# EAGLE library part HILETGO (library EE445L)
HiLetgo ST7735 TFT and SDC // GND (pin 1) connected to ground // VCC (pin 2) connected to +3.3 V // NC (pins 3,4,5) not connected // RESET (pin 6) TFT, to PA7 (GPIO) // A0 (pin 7) TFT, Data/Command PA6 (GPIO), high for data, low for command // SDA (pin 8) TFT, MOSI PA5 (SSI0Tx) // SCL (pin 9) TFT, SCK PA2 (SSI0Clk) // CS (pin 10) TFT, PA3 (SSI0Fss) // SCK (pin 11) SDC, serial clock, also connect to PA2 ST7735_SCK // MISO (pin 12) SDC, MISO, connect to PA4 ST7735_MISO // MOSI (pin 13) SDC, MOSI, also connect to ST7735_MOSI PA5 // SD_CS (pin 14) SDC, chip select, connect to PD7 // LED+ (pin 15) TFT, connected to +3.3 V // LED- (pin 16) TFT, connected to ground
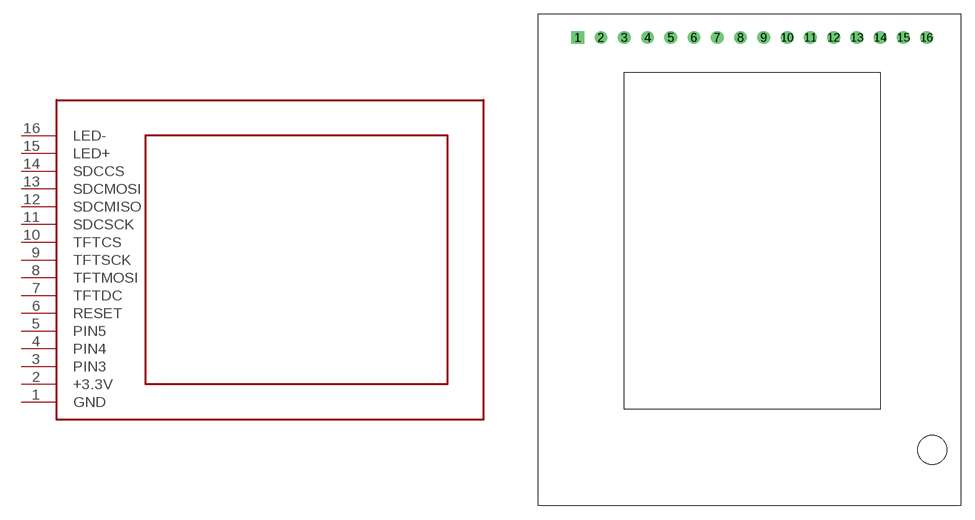
[diagram p34: symbol with the pads of HILETGO; footprint HILETGO]

Designator prefix -

## HILETGO  [HILETGO]
1  GND
2  +3.3V
3  PIN3
4  PIN4
5  PIN5
6  RESET
7  TFTDC
8  TFTMOSI
9  TFTSCK
10  TFTCS
11  SDCSCK
12  SDCMISO
13  SDCMOSI
14  SDCCS
15  LED+
16  LED-

## Footprint HILETGO (pad centres in mm)
HiLetgo ST7735 TFT and SDC (SDC not tested)******************* // LED- (pin 16) TFT, connected to ground // LED+ (pin 15) TFT, connected to +3.3 V // SD_CS (pin 14) SDC, chip select // MOSI (pin 13) SDC, MOSI // MISO (pin 12) SDC, MISO // SCK (pin 11) SDC, serial clock // CS (pin 10) TFT, PA3 (SSI0Fss) // SCL (pin 9) TFT, SCK PA2 (SSI0Clk) // SDA (pin 8) TFT, MOSI PA5 (SSI0Tx) // A0 (pin 7) TFT, Data/Command PA6 (GPIO), high for data, low for command // RESET (pin 6) TFT, to PA7 (GPIO) // NC (pins 3,4,5) not connected // VCC (pin 2) connected to +3.3 V // GND (pin 1) connected to ground
drill 0.9 square: 1 -20.32,25.4
drill 0.9: 2 -17.78,25.4; 3 -15.24,25.4; 4 -12.7,25.4; 5 -10.16,25.4; 6 -7.62,25.4; 7 -5.08,25.4; 8 -2.54,25.4; 9 0,25.4; 10 2.54,25.4; 11 5.08,25.4; 12 7.62,25.4; 13 10.16,25.4; 14 12.7,25.4; 15 15.24,25.4; 16 17.78,25.4
hole 3.175 at 18.415,-19.685